# Altium footprint library Modules.PcbLib: 22 footprints (part 1 of 2)
Each footprint in its own frame and in the unit in brackets; x right, y up, seen from the top. Pads: shape width x height; smd on the part's side, far side on the other; paste and mask are expansions set on the pad; w line width, h text height; cw(c..) or ccw(c..) is an arc to the next point about the centre after c.
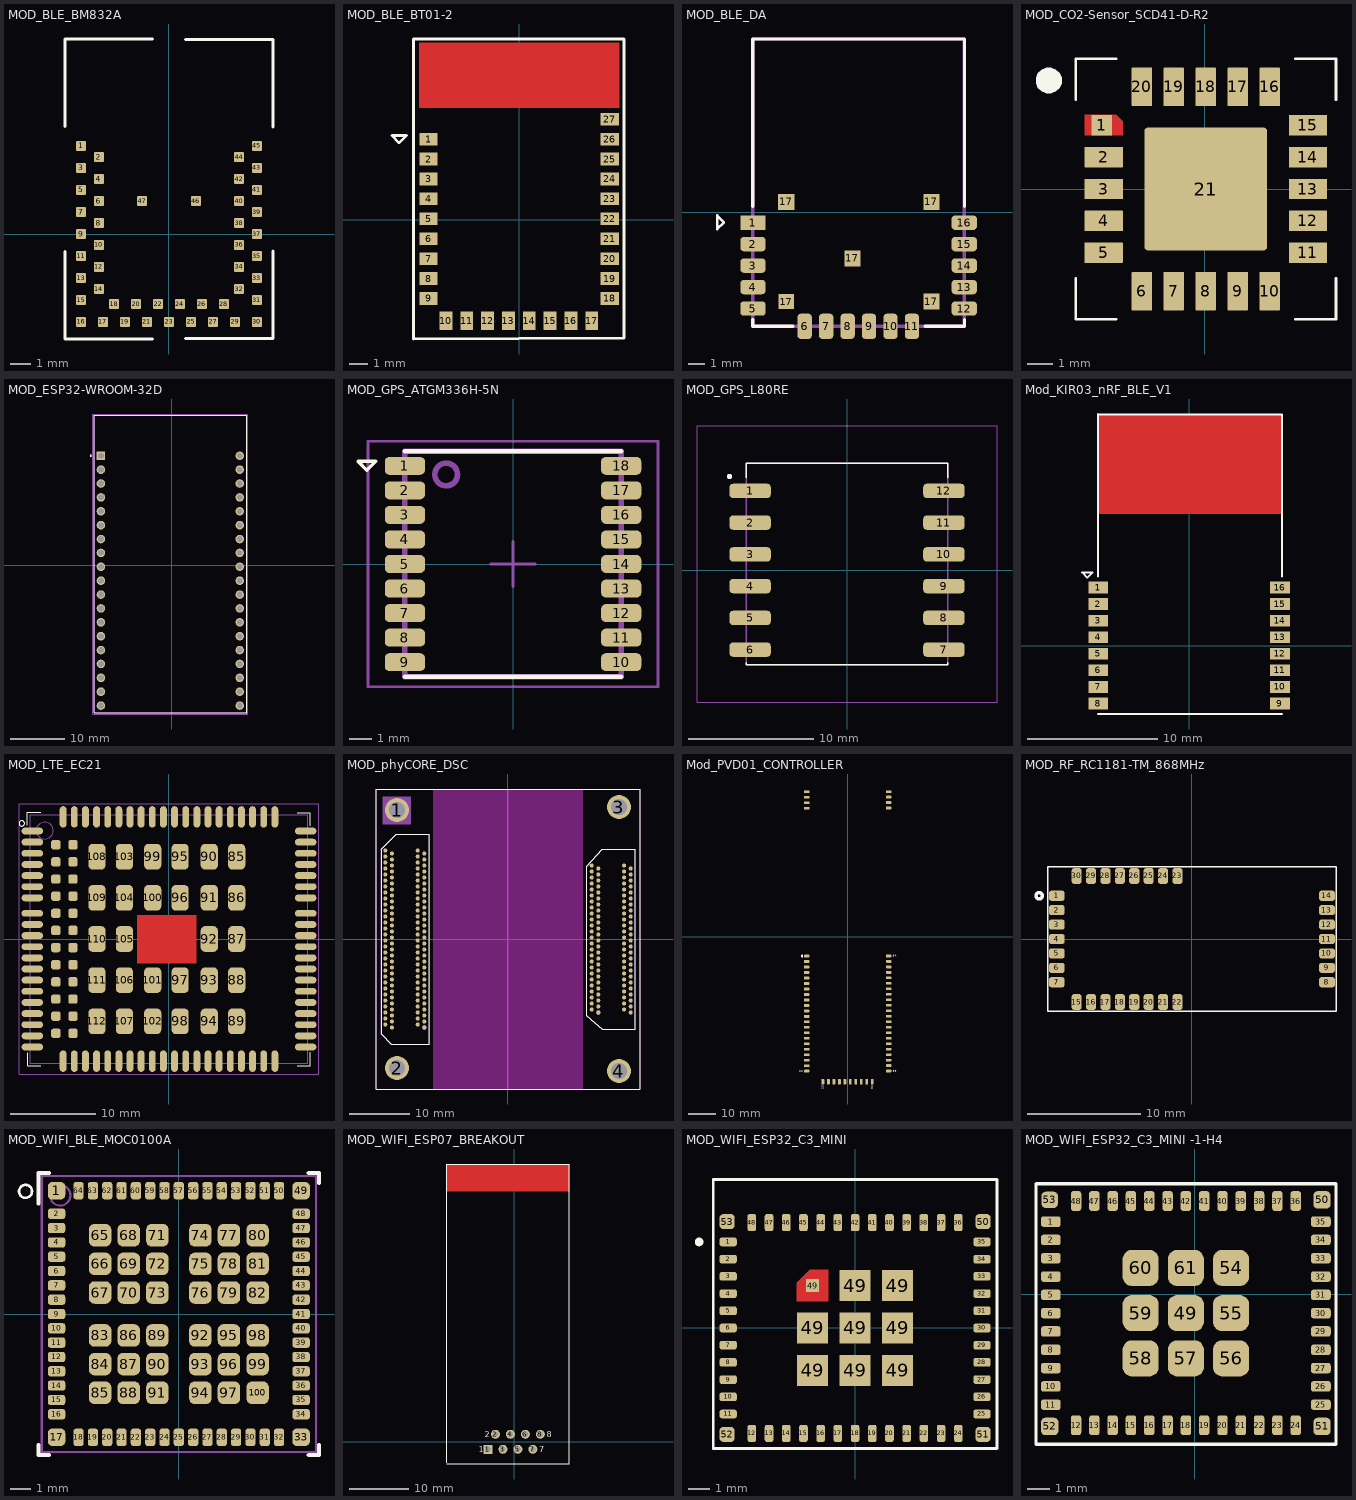
[diagram p0: the footprints below, top view; thin cyan lines are the x and y axes]

## MOD_BLE_BM832A [mil] "/20210909/C-E.Rincon"
pads (47):
  rrect25% 20x20 smd mask+0: 1(-173.23,173.23) 2(-137.8,151.57) 3(-173.23,129.92) 4(-137.8,108.27) 5(-173.23,86.61) 6(-137.8,64.96) 7(-173.23,43.31) 8(-137.8,21.65) 9(-173.23,0) 10(-137.8,-21.65) 11(-173.23,-43.31) 12(-137.8,-64.96) 13(-173.23,-86.61) 14(-137.8,-108.27) 15(-173.23,-129.92) 16(-173.23,-173.23) 17(-129.92,-173.23) 18(-108.27,-137.8) 19(-86.61,-173.23) 20(-64.96,-137.8) 21(-43.31,-173.23) 22(-21.65,-137.8) 23(0,-173.23) 24(21.65,-137.8) 25(43.31,-173.23) 26(64.96,-137.8) 27(86.61,-173.23) 28(108.27,-137.8) 29(129.92,-173.23) 30(173.23,-173.23) 31(173.23,-129.92) 32(137.8,-108.27) 33(173.23,-86.61) 34(137.8,-64.96) 35(173.23,-43.31) 36(137.8,-21.65) 37(173.23,0) 38(137.8,21.65) 39(173.23,43.31) 40(137.8,64.96) 41(173.23,86.61) 42(137.8,108.27) 43(173.23,129.92) 44(137.8,151.57) 45(173.23,173.23) 46(53.15,64.96) 47(-53.15,64.96)
Top Overlay:
  lines w6: -204.72,-34.45 -204.72,-206.69 -32.48,-206.69 ; -204.72,211.61 -204.72,383.86 -32.48,383.86 ; 32.48,-205.71 204.72,-205.71 204.72,-33.46 ; 32.48,382.87 204.72,382.87 204.72,210.63
3D body: height 78.74, standoff 0, extent -197.46,-196.47 197.47,210.64
3D body "BM832.step": height 24.5, standoff 0.5, extent -200.7,-200.83 200.87,382.01

## MOD_BLE_BT01-2 [mm] "/20210217/J-E.Pachon"
pads (27):
  rect 1x0.7 smd: 1(-5,4.464) 2(-5,3.364) 3(-5,2.264) 4(-5,1.164) 5(-5,0.064) 6(-5,-1.036) 7(-5,-2.136) 8(-5,-3.236) 9(-5,-4.336) 18(5,-4.336) 19(5,-3.236) 20(5,-2.136) 21(5,-1.036) 22(5,0.064) 23(5,1.164) 24(5,2.264) 25(5,3.364) 26(5,4.464) 27(5,5.564)
  rect 0.7x1 smd: 10(-4.048,-5.564) 11(-2.897,-5.564) 12(-1.747,-5.564) 13(-0.597,-5.564) 14(0.553,-5.564) 15(1.703,-5.564) 16(2.853,-5.564) 17(4.003,-5.564)
Top Layer:
  pour cut-out: 5.527,6.185 -5.513,6.185 -5.513,9.787 5.527,9.786
Top Overlay:
  lines w0.152: 5.79,-6.521 -5.833,-6.572 -5.833,9.99 5.79,9.99 5.79,-6.52 ; -7.03,4.656 -6.63,4.256 -6.23,4.656 -6.93,4.656 -7.03,4.656
3D body: height 2, standoff 0, extent -5.032,-5.572 5,9.786

## MOD_BLE_DA [mm] "/20230718/L-A.Rodriguez"
pads (21):
  rect 1.5x0.85 smd mask+0.051: 1(9.131,-0.607)
  rrect50% 1.5x0.85 smd mask+0.051: 2(9.131,-1.877) 3(9.131,-3.147) 4(9.131,-4.417) 5(9.131,-5.687) 12(21.631,-5.687) 13(21.631,-4.417) 14(21.631,-3.147) 15(21.631,-1.877) 16(21.631,-0.607)
  rrect50% 0.85x1.5 smd mask+0.051: 6(12.189,-6.738) 7(13.459,-6.738) 8(14.729,-6.738) 9(15.999,-6.738) 10(17.269,-6.738) 11(18.539,-6.738)
  rect 0.95x0.95 smd mask+0.051: 17(11.1,0.629) 17(15.012,-2.717) 17(19.685,0.629) 17(19.685,-5.279)
  rect 0.89x0.89 smd mask+0.051: 17(11.1,-5.279)
Top Overlay:
  lines w0.152: 7.01,-0.983 7.01,-0.883 7.01,-0.183 7.41,-0.583 7.01,-0.983
  lines w0.203: 9.131,-6.35 9.131,-6.738 11.481,-6.738 ; 9.131,0.362 9.131,10.262 21.648,10.262 21.648,0.362 ; 19.312,-6.738 21.648,-6.738 21.648,-6.35
Mechanical 2:
  lines w0.203: 9.131,-6.738 9.131,10.262 21.631,10.262 21.631,-6.738 9.131,-6.738
3D body "TTM00_DA-MODULE_1.1.step": height 2.21, standoff 0, extent 9.131,-6.738 21.631,10.262

## MOD_CO2-Sensor_SCD41-D-R2 [mm] "/20220124/J/E.Pachon"
pads (21):
  rect 0.8x0.8 smd paste-0.7: 1(-4.037,2.5)
  rrect5% 1.5x0.8 smd paste-0.125: 2(-3.962,1.25) 3(-3.962,0) 4(-3.962,-1.25) 5(-3.962,-2.5) 11(4.038,-2.5) 12(4.038,-1.25) 13(4.038,0) 14(4.038,1.25) 15(4.038,2.5)
  rrect5% 0.8x1.5 smd paste-0.125: 6(-2.462,-4) 7(-1.212,-4) 8(0.038,-4) 9(1.288,-4) 10(2.538,-4) 16(2.538,4) 17(1.288,4) 18(0.038,4) 19(-1.212,4) 20(-2.462,4)
  rrect5% 4.8x4.8 smd paste-5 mask+0.1: 21(0.038,0)
Top Layer:
  region: -4.712,2.1 -4.712,2.9 -3.462,2.9 -3.212,2.65 -3.212,2.1
Top Overlay:
  region: -6.112,3.75 -6.212,3.75 -6.396,3.826 -6.536,3.967 -6.612,4.151 -6.612,4.25 -6.612,4.349 -6.536,4.533 -6.396,4.674 -6.212,4.75 -6.112,4.75 -6.013,4.75 -5.829,4.674 -5.689,4.533 -5.612,4.349 -5.612,4.25 -5.612,4.151 -5.689,3.967 -5.829,3.826 -6.013,3.75
  lines w0.1: -5.062,-3.5 -5.062,-5.1 -3.462,-5.1 ; -5.062,3.5 -5.062,5.1 -3.462,5.1 ; 3.538,-5.1 5.138,-5.1 5.138,-3.5 ; 3.538,5.1 5.138,5.1 5.138,3.5
Top Paste:
  region: 2.187,2.05 2.187,0.45 2.187,0.43 2.172,0.393 2.144,0.365 2.107,0.35 2.087,0.35 0.488,0.35 0.468,0.35 0.431,0.365 0.403,0.393 0.388,0.43 0.388,0.45 0.388,2.05 0.388,2.07 0.403,2.107 0.431,2.135 0.468,2.15 0.488,2.15 2.087,2.15 2.107,2.15 2.144,2.135 2.172,2.107 2.187,2.07
  region: 2.088,-2.15 0.488,-2.15 0.468,-2.15 0.431,-2.135 0.403,-2.107 0.388,-2.07 0.388,-2.05 0.388,-0.45 0.388,-0.43 0.403,-0.393 0.431,-0.365 0.468,-0.35 0.488,-0.35 2.088,-0.35 2.107,-0.35 2.144,-0.365 2.172,-0.393 2.188,-0.43 2.188,-0.45 2.188,-2.05 2.188,-2.07 2.172,-2.107 2.144,-2.135 2.108,-2.15
  region: -2.112,-2.05 -2.112,-0.45 -2.112,-0.43 -2.097,-0.393 -2.069,-0.365 -2.032,-0.35 -2.012,-0.35 -0.413,-0.35 -0.393,-0.35 -0.356,-0.365 -0.328,-0.393 -0.313,-0.43 -0.313,-0.45 -0.313,-2.05 -0.313,-2.07 -0.328,-2.107 -0.356,-2.135 -0.393,-2.15 -0.413,-2.15 -2.012,-2.15 -2.032,-2.15 -2.069,-2.135 -2.097,-2.107 -2.112,-2.07
  region: -2.013,2.15 -0.413,2.15 -0.393,2.15 -0.356,2.135 -0.328,2.107 -0.313,2.07 -0.313,2.05 -0.313,0.45 -0.313,0.43 -0.328,0.393 -0.356,0.365 -0.393,0.35 -0.413,0.35 -2.013,0.35 -2.032,0.35 -2.069,0.365 -2.097,0.393 -2.113,0.43 -2.113,0.45 -2.113,2.05 -2.113,2.07 -2.097,2.107 -2.069,2.135 -2.032,2.15
3D body "149693-00_SCD4x_Datasheet.STEP": height 6.28, standoff -0.03, extent -5.012,-5.05 5.088,5.05

## MOD_ESP32-WROOM-32D [mm] "/20231103/J.Jaramillo"
pads (38):
  rect 1.56x1.56 / inner round 1.56 / far side rect 1.56x1.56 hole 1.04: J2-1(-12.954,20.014)
  round 1.56 hole 1.04: J2-2(-12.954,17.474) J2-3(-12.954,14.934) J2-4(-12.954,12.394) J2-5(-12.954,9.854) J2-6(-12.954,7.314) J2-7(-12.954,4.774) J2-8(-12.954,2.234) J2-9(-12.954,-0.306) J2-10(-12.954,-2.846) J2-11(-12.954,-5.386) J2-12(-12.954,-7.926) J2-13(-12.954,-10.466) J2-14(-12.954,-13.006) J2-15(-12.954,-15.546) J2-16(-12.954,-18.086) J2-17(-12.954,-20.626) J2-18(-12.954,-23.166) J2-19(-12.954,-25.706) J3-1(12.446,20.014) J3-2(12.446,17.474) J3-3(12.446,14.934) J3-4(12.446,12.394) J3-5(12.446,9.854) J3-6(12.446,7.314) J3-7(12.446,4.774) J3-8(12.446,2.234) J3-9(12.446,-0.306) J3-10(12.446,-2.846) J3-11(12.446,-5.386) J3-12(12.446,-7.926) J3-13(12.446,-10.466) J3-14(12.446,-13.006) J3-15(12.446,-15.546) J3-16(12.446,-18.086) J3-17(12.446,-20.626) J3-18(12.446,-23.166) J3-19(12.446,-25.706)
Top Overlay:
  circle w0.2: c-14.854,20.014 r0.1
  lines w0.127: -14.204,-26.996 13.696,-26.996 13.696,27.404 -14.204,27.404 -14.204,-26.996
Top 3D Body:
  circle w0.2: c-14.854,20.014 r0.1
  lines w0.127: -14.204,-26.996 -14.204,27.404 13.696,27.404 13.696,-26.996 -14.204,-26.996
Mechanical 15:
  lines w0.05: -14.454,-27.246 -14.454,27.654 13.946,27.654 13.946,-27.246 -14.454,-27.246
3D body "step_temp.STEP": height 6.69, standoff -6, extent -14.224,-27.646 13.716,27.454

## MOD_GPS_ATGM336H-5N [mm] "/20210421/C-D Viveros"
pads (18):
  rrect50% 1.8x0.8 smd: 1(-4.85,4.4) 2(-4.85,3.3) 3(-4.85,2.2) 4(-4.85,1.1) 5(-4.85,0) 6(-4.85,-1.1) 7(-4.85,-2.2) 8(-4.85,-3.3) 9(-4.85,-4.4) 10(4.85,-4.4) 11(4.85,-3.3) 12(4.85,-2.2) 13(4.85,-1.1) 14(4.85,0) 15(4.85,1.1) 16(4.85,2.2) 17(4.85,3.3) 18(4.85,4.4)
Top Overlay:
  lines w0.152: -6.95,4.604 -6.85,4.604 -6.15,4.604 -6.55,4.204 -6.95,4.604
  lines w0.2: -4.85,-5.05 4.85,-5.05 ; -4.85,5.05 4.85,5.05
Mechanical 1:
  circle w0.254: c-2.997,4.013 r0.508
  lines w0.254: -4.85,-5.05 4.85,-5.05 4.85,5.05 -4.85,5.05 -4.85,-5.05
Mechanical 15:
  lines w0.127: -1,0 1,0 ; 0,-1 0,1 ; -6.5,-5.5 -6.5,5.5 6.5,5.5 6.5,-5.5 -6.5,-5.5
3D body: height 2.4, standoff 0, extent -4.85,-5.05 4.85,5.05

## MOD_GPS_L80RE [mil] "/20210416/V-A.Patino"
pads (12):
  rrect50% 130x45 smd paste-78.74: 1(-305.12,250) 2(-305.12,150) 3(-305.12,50) 4(-305.12,-50) 5(-305.12,-150) 6(-305.12,-250) 7(305.12,-250) 8(305.12,-150) 9(305.12,-50) 10(305.12,50) 11(305.12,150) 12(305.12,250)
Top Overlay:
  circle w7.87: c-370.08,295.28 r3.94
  lines w5: -317.91,-291.34 -317.91,-298.23 317.91,-298.23 317.91,-291.34 ; -317.91,291.34 -317.91,337.6 317.91,337.6 317.91,291.34
Top 3D Body:
  circle w7.87: c-370.08,295.28 r3.94
  lines w5: -317.91,-298.23 317.91,-298.23 317.91,337.6 -317.91,337.6 -317.91,-298.23
Mechanical 15:
  lines w1.97: -472.44,-416.34 472.44,-416.34 472.44,455.71 -472.44,455.71 -472.44,-416.34
3D body "L80RE-M37.STEP": height 278.06, standoff 0.5, extent -314.96,-293.95 314.96,335.97

## Mod_KIR03_nRF_BLE_V1 [mm] "/20200207/ C-A.Serna.A"
pads (16):
  rect 1.5x0.9 smd: 1(-6.957,4.445) 2(-6.957,3.175) 3(-6.957,1.905) 4(-6.957,0.635) 5(-6.957,-0.635) 6(-6.957,-1.905) 7(-6.957,-3.175) 8(-6.957,-4.445) 9(6.957,-4.445) 10(6.957,-3.175) 11(6.957,-1.905) 12(6.957,-0.635) 13(6.957,0.635) 14(6.957,1.905) 15(6.957,3.175) 16(6.957,4.445)
Top Layer:
  pour cut-out: 7.094,10.1 -7.008,10.1 -7.008,17.741 7.094,17.74
Top Overlay:
  lines w0.152: -7.008,-5.249 -6.859,-5.249 7.094,-5.249 ; -7.008,5.3 -7.008,17.73 -6.978,17.7 7.094,17.7 7.094,5.3 7.094,5.3 ; -8.2,5.6 -8.1,5.6 -7.4,5.6 -7.8,5.2 -8.2,5.6
3D body "KIR03_P3D_nRF-BLE_20200210.step": height 2.64, standoff 0.01, extent -6.957,-5.3 7.043,17.7

## MOD_LTE_EC21 [mm] "/20190402/ M-X.Arias"
pads (132):
  oval 2.5x0.8 smd: 1(-15.95,12.6) 2(-15.95,11.3) 3(-15.95,10) 4(-15.95,8.7) 5(-15.95,7.4) 6(-15.95,6.1) 7(-15.95,4.8) 8(-15.95,0.4) 9(-15.95,-0.9) 10(-15.95,-2.2) 11(-15.95,-3.5) 12(-15.95,-4.8) 13(-15.95,-6.1) 14(-15.95,-7.4) 15(-15.95,-8.7) 16(-15.95,-10) 17(-15.95,-11.3) 18(-15.95,-12.6) 37(15.95,-12.6) 38(15.95,-11.3) 39(15.95,-10) 40(15.95,-8.7) 41(15.95,-7.4) 42(15.95,-6.1) 43(15.95,-4.8) 44(15.95,-3.5) 45(15.95,-2.2) 46(15.95,-0.9) 47(15.95,0.4) 48(15.95,4.8) 49(15.95,6.1) 50(15.95,7.4) 51(15.95,8.7) 52(15.95,10) 53(15.95,11.3) 54(15.95,12.6) 141(-15.95,3) 142(-15.95,1.7) 143(15.95,1.7) 144(15.95,3)
  oval 0.8x2.5 smd: 19(-9.75,-14.25) 20(-8.45,-14.25) 21(-7.15,-14.25) 22(-5.85,-14.25) 23(-4.55,-14.25) 24(-3.25,-14.25) 25(-1.95,-14.25) 26(-0.65,-14.25) 27(0.65,-14.25) 28(1.95,-14.25) 29(3.25,-14.25) 30(4.55,-14.25) 31(5.85,-14.25) 32(7.15,-14.25) 33(8.45,-14.25) 34(9.75,-14.25) 35(11.05,-14.25) 36(12.35,-14.25) 55(12.35,14.25) 56(11.05,14.25) 57(9.75,14.25) 58(8.45,14.25) 59(7.15,14.25) 60(5.85,14.25) 61(4.55,14.25) 62(3.25,14.25) 63(1.95,14.25) 64(0.65,14.25) 65(-0.65,14.25) 66(-1.95,14.25) 67(-3.25,14.25) 68(-4.55,14.25) 69(-5.85,14.25) 70(-7.15,14.25) 71(-8.45,14.25) 72(-9.75,14.25) 113(-11.05,14.25) 114(-12.35,14.25) 115(-11.05,-14.25) 116(-12.35,-14.25)
  rrect50% 2x3 smd: 85(7.9,9.6) 86(7.9,4.8) 87(7.9,0) 88(7.9,-4.8) 89(7.9,-9.6) 90(4.7,9.6) 91(4.7,4.8) 92(4.7,0) 93(4.7,-4.8) 94(4.7,-9.6) 95(1.3,9.6) 96(1.3,4.8) 97(1.3,-4.8) 98(1.3,-9.6) 99(-1.9,9.6) 100(-1.9,4.8) 101(-1.9,-4.8) 102(-1.9,-9.6) 103(-5.2,9.6) 104(-5.2,4.8) 105(-5.2,0) 106(-5.2,-4.8) 107(-5.2,-9.6) 108(-8.4,9.6) 109(-8.4,4.8) 110(-8.4,0) 111(-8.4,-4.8) 112(-8.4,-9.6)
  rrect50% 1.1x1.1 smd: 117(-11.2,11) 118(-11.2,9) 119(-11.2,7) 120(-11.2,5) 121(-11.2,3) 122(-11.2,1) 123(-11.2,-1) 124(-11.2,-3) 125(-11.2,-5) 126(-11.2,-7) 127(-11.2,-9) 128(-11.2,-11) 129(-13.2,11) 130(-13.2,9) 131(-13.2,7) 132(-13.2,5) 133(-13.2,3) 134(-13.2,1) 135(-13.2,-1) 136(-13.2,-3) 137(-13.2,-5) 138(-13.2,-7) 139(-13.2,-9) 140(-13.2,-11)
Top Layer:
  pour cut-out: -3.707,2.796 3.202,2.796 3.202,-2.818 -3.707,-2.818
Top Overlay:
  circle w0.127: c-17.17,13.487 r0.318
  lines w0.127: -16.51,13.284 -16.51,14.808 -14.986,14.808 ; -16.459,-13.259 -16.459,-14.783 -14.935,-14.783 ; 14.935,-14.757 16.459,-14.757 16.459,-13.233 ; 14.935,14.757 16.459,14.757 16.459,13.233
Mechanical 1:
  circle w0.127: c-14.503,12.649 r0.986
  lines w0.127: -16.2,14.483 -16.2,-14.5 16.2,-14.5 16.2,14.5 -16.183,14.5
Mechanical 15:
  lines w0.127: -2.032,0 2.032,0 ; 0,-2.032 0,2.032 ; 17.476,-15.797 -17.474,-15.797 -17.499,-15.772 -17.499,15.8 17.476,15.8 ; 17.502,-15.797 17.502,15.775
3D body: height 1.5, standoff 0, extent -16.2,-14.58 16.2,14.42

## MOD_phyCORE_DSC [mm] "phyCORE DSC 220 SMD Pads/N-A.Potosi/20200413"
height 4.064
pads (224):
  round 4 hole 2.6 paste-127 mask+0: 1(-18.5,21.5) 2(-18.5,-21.5) 3(18.5,22) 4(18.5,-22)
  round 0.675 smd paste+0 mask+0.05: A1(-20.45,14.75) A2(-19.35,14.25) A3(-20.45,13.75) A4(-19.35,13.25) A5(-20.45,12.75) A6(-19.35,12.25) A7(-20.45,11.75) A8(-19.35,11.25) A9(-20.45,10.75) A10(-19.35,10.25) A11(-20.45,9.75) A12(-19.35,9.25) A13(-20.45,8.75) A14(-19.35,8.25) A15(-20.45,7.75) A16(-19.35,7.25) A17(-20.45,6.75) A18(-19.35,6.25) A19(-20.45,5.75) A20(-19.35,5.25) A21(-20.45,4.75) A22(-19.35,4.25) A23(-20.45,3.75) A24(-19.35,3.25) A25(-20.45,2.75) A26(-19.35,2.25) A27(-20.45,1.75) A28(-19.35,1.25) A29(-20.45,0.75) A30(-19.35,0.25) A31(-20.45,-0.25) A32(-19.35,-0.75) A33(-20.45,-1.25) A34(-19.35,-1.75) A35(-20.45,-2.25) A36(-19.35,-2.75) A37(-20.45,-3.25) A38(-19.35,-3.75) A39(-20.45,-4.25) A40(-19.35,-4.75) A41(-20.45,-5.25) A42(-19.35,-5.75) A43(-20.45,-6.25) A44(-19.35,-6.75) A45(-20.45,-7.25) A46(-19.35,-7.75) A47(-20.45,-8.25) A48(-19.35,-8.75) A49(-20.45,-9.25) A50(-19.35,-9.75) A51(-20.45,-10.25) A52(-19.35,-10.75) A53(-20.45,-11.25) A54(-19.35,-11.75) A55(-20.45,-12.25) A56(-19.35,-12.75) A57(-20.45,-13.25) A58(-19.35,-13.75) A59(-20.45,-14.25) A60(-19.35,-14.75) B1(-15.05,14.75) B2(-13.95,14.25) B3(-15.05,13.75) B4(-13.95,13.25) B5(-15.05,12.75) B6(-13.95,12.25) B7(-15.05,11.75) B8(-13.95,11.25) B9(-15.05,10.75) B10(-13.95,10.25) B11(-15.05,9.75) B12(-13.95,9.25) B13(-15.05,8.75) B14(-13.95,8.25) B15(-15.05,7.75) B16(-13.95,7.25) B17(-15.05,6.75) B18(-13.95,6.25) B19(-15.05,5.75) B20(-13.95,5.25) B21(-15.05,4.75) B22(-13.95,4.25) B23(-15.05,3.75) B24(-13.95,3.25) B25(-15.05,2.75) B26(-13.95,2.25) B27(-15.05,1.75) B28(-13.95,1.25) B29(-15.05,0.75) B30(-13.95,0.25) B31(-15.05,-0.25) B32(-13.95,-0.75) B33(-15.05,-1.25) B34(-13.95,-1.75) B35(-15.05,-2.25) B36(-13.95,-2.75) B37(-15.05,-3.25) B38(-13.95,-3.75) B39(-15.05,-4.25) B40(-13.95,-4.75) B41(-15.05,-5.25) B42(-13.95,-5.75) B43(-15.05,-6.25) B44(-13.95,-6.75) B45(-15.05,-7.25) B46(-13.95,-7.75) B47(-15.05,-8.25) B48(-13.95,-8.75) B49(-15.05,-9.25) B50(-13.95,-9.75) B51(-15.05,-10.25) B52(-13.95,-10.75) B53(-15.05,-11.25) B54(-13.95,-11.75) B55(-15.05,-12.25) B56(-13.95,-12.75) B57(-15.05,-13.25) B58(-13.95,-13.75) B59(-15.05,-14.25) B60(-13.95,-14.75) C1(13.95,12.25) C2(15.05,11.75) C3(13.95,11.25) C4(15.05,10.75) C5(13.95,10.25) C6(15.05,9.75) C7(13.95,9.25) C8(15.05,8.75) C9(13.95,8.25) C10(15.05,7.75) C11(13.95,7.25) C12(15.05,6.75) C13(13.95,6.25) C14(15.05,5.75) C15(13.95,5.25) C16(15.05,4.75) C17(13.95,4.25) C18(15.05,3.75) C19(13.95,3.25) C20(15.05,2.75) C21(13.95,2.25) C22(15.05,1.75) C23(13.95,1.25) C24(15.05,0.75) C25(13.95,0.25) C26(15.05,-0.25) C27(13.95,-0.75) C28(15.05,-1.25) C29(13.95,-1.75) C30(15.05,-2.25) C31(13.95,-2.75) C32(15.05,-3.25) C33(13.95,-3.75) C34(15.05,-4.25) C35(13.95,-4.75) C36(15.05,-5.25) C37(13.95,-5.75) C38(15.05,-6.25) C39(13.95,-6.75) C40(15.05,-7.25) C41(13.95,-7.75) C42(15.05,-8.25) C43(13.95,-8.75) C44(15.05,-9.25) C45(13.95,-9.75) C46(15.05,-10.25) C47(13.95,-10.75) C48(15.05,-11.25) C49(13.95,-11.75) C50(15.05,-12.25) D1(19.35,12.25) D2(20.45,11.75) D3(19.35,11.25) D4(20.45,10.75) D5(19.35,10.25) D6(20.45,9.75) D7(19.35,9.25) D8(20.45,8.75) D9(19.35,8.25) D10(20.45,7.75) D11(19.35,7.25) D12(20.45,6.75) D13(19.35,6.25) D14(20.45,5.75) D15(19.35,5.25) D16(20.45,4.75) D17(19.35,4.25) D18(20.45,3.75) D19(19.35,3.25) D20(20.45,2.75) D21(19.35,2.25) D22(20.45,1.75) D23(19.35,1.25) D24(20.45,0.75) D25(19.35,0.25) D26(20.45,-0.25) D27(19.35,-0.75) D28(20.45,-1.25) D29(19.35,-1.75) D30(20.45,-2.25) D31(19.35,-2.75) D32(20.45,-3.25) D33(19.35,-3.75) D34(20.45,-4.25) D35(19.35,-4.75) D36(20.45,-5.25) D37(19.35,-5.75) D38(20.45,-6.25) D39(19.35,-6.75) D40(20.45,-7.25) D41(19.35,-7.75) D42(20.45,-8.25) D43(19.35,-8.75) D44(20.45,-9.25) D45(19.35,-9.75) D46(20.45,-10.25) D47(19.35,-10.75) D48(20.45,-11.25) D49(19.35,-11.75) D50(20.45,-12.25)
Top Layer keep-out:
  region: -12.5,25 12.5,25 12.5,-25 -12.5,-25
Top Overlay:
  lines w0.1: -21.162,-15.827 -21.162,14.984 -18.646,17.5 -13.161,17.5 -13.162,-17.507 -19.483,-17.507 -21.162,-15.827 ; 13.136,-12.822 13.136,12.095 15.722,15 21.188,15 21.188,-15 15.672,-15 13.136,-12.822
  lines w0.15: -22,-25 22,-25 22,25 -22,25 -22,-25
Top Paste:
  text "SMT Stencil 100um" at -11.19,5.638 h1.27
Keep-Out Layer:
  board cut-out: -12.5,25 12.5,25 12.5,-25 -12.5,-25
Mechanical 1:
  region: -20.9,23.7 -20.9,19.1 -16.2,19.1 -16.2,23.7
  region: 15.05,-12.584 15.117,-12.584 15.241,-12.533 15.336,-12.438 15.388,-12.314 15.388,-12.247 15.388,-12.18 15.336,-12.056 15.241,-11.961 15.117,-11.909 15.05,-11.909 14.983,-11.909 14.859,-11.961 14.764,-12.056 14.713,-12.18 14.713,-12.247 14.713,-12.314 14.764,-12.438 14.859,-12.533 14.983,-12.584
  region: -13.95,-15.084 -13.883,-15.084 -13.759,-15.033 -13.664,-14.938 -13.612,-14.814 -13.612,-14.747 -13.612,-14.68 -13.664,-14.556 -13.759,-14.461 -13.883,-14.409 -13.95,-14.409 -14.017,-14.409 -14.141,-14.461 -14.236,-14.556 -14.287,-14.68 -14.287,-14.747 -14.287,-14.814 -14.236,-14.938 -14.141,-15.033 -14.017,-15.084
  lines w0.1: 0,-25 0,25 0,-25
  lines w0.15: -22,-25 22,-25 22,25 -22,25 -22,-25 ; -21.162,-15.85 -21.162,14.984 -18.646,17.5 -13.161,17.5 -13.098,-17.5 -19.448,-17.5 -21.162,-15.85 ; 13.136,-12.822 13.136,12.095 15.722,15 21.188,15 21.188,-15 15.672,-15 13.136,-12.822
  text ".Designator" at -0.402,-0.297 h1
3D body: height 0, standoff -2, extent -19.648,20.35 -17.352,22.641
3D body: height 0, standoff -2, extent 17.352,20.85 19.648,23.141
3D body: height 0, standoff -2, extent 17.352,-23.15 19.648,-20.859
3D body: height 0, standoff -2, extent -19.669,-22.679 -17.374,-20.388
3D body: height 4, standoff 0, extent -22.25,-25.25 22.25,25.25

## Mod_PVD01_CONTROLLER [mm] "/20230808/J-A.Sepulveda"
pads (62):
  rrect50% 2x1 smd: 0(-15,47.037) 0(-15,49.044) 0(-15,51.05) 0(-15,53.057) 0(15,47.088) 0(15,49.095) 0(15,51.101) 0(15,53.057) 1(-15,-7.083) 2(-15,-9.09) 3(-15,-11.096) 4(-15,-13.103) 5(-15,-15.11) 6(-15,-17.116) 7(-15,-19.123) 8(-15,-21.129) 9(-15,-23.136) 10(-15,-25.143) 11(-15,-27.149) 12(-15,-29.156) 13(-15,-31.162) 14(-15,-33.169) 15(-15,-35.176) 16(-15,-37.182) 17(-15,-39.189) 18(-15,-41.195) 19(-15,-43.202) 20(-15,-45.209) 21(-15,-47.215) 22(-15,-49.171) 33(15,-49.171) 34(15,-47.164) 35(15,-45.158) 36(15,-43.151) 37(15,-41.145) 38(15,-39.138) 39(15,-37.131) 40(15,-35.125) 41(15,-33.118) 42(15,-31.112) 43(15,-29.105) 44(15,-27.098) 45(15,-25.092) 46(15,-23.085) 47(15,-21.079) 48(15,-19.072) 49(15,-17.065) 50(15,-15.059) 51(15,-13.052) 52(15,-11.046) 53(15,-9.039) 54(15,-7.032)
  rrect50% 1x2 smd: 23(-9.03,-53.057) 24(-7.023,-53.057) 25(-5.016,-53.057) 26(-3.01,-53.057) 27(-1.003,-53.057) 28(1.003,-53.057) 29(3.01,-53.057) 30(5.016,-53.057) 31(7.023,-53.057) 32(9.03,-53.057)
Top Overlay:
  circle w0.3: c-16.626,-7.083 r0.279
  text "54" at 16.445,-7.413 h0.76
  text "33" at 16.445,-49.552 h0.76
  text "32" at 9.411,-55.724 h0.76
  text "23" at -8.649,-55.724 h0.76
  text "22" at -17.667,-49.552 h0.76
3D body: height 2, standoff 0, extent -15,-53.057 15,56.943

## MOD_RF_RC1181-TM_868MHz [mm] "/20230728/J-A.Sepulveda"
pads (30):
  rrect50% 1.39x0.89 smd: 1(-11.905,3.81) 2(-11.905,2.54) 3(-11.905,1.27) 4(-11.905,0) 5(-11.905,-1.27) 6(-11.905,-2.54) 7(-11.905,-3.81) 8(11.905,-3.81) 9(11.905,-2.54) 10(11.905,-1.27) 11(11.905,0) 12(11.905,1.27) 13(11.905,2.54) 14(11.905,3.81)
  rrect50% 0.89x1.39 smd: 15(-10.16,-5.555) 16(-8.89,-5.555) 17(-7.62,-5.555) 18(-6.35,-5.555) 19(-5.08,-5.555) 20(-3.81,-5.555) 21(-2.54,-5.555) 22(-1.27,-5.555) 23(-1.27,5.555) 24(-2.54,5.555) 25(-3.81,5.555) 26(-5.08,5.555) 27(-6.35,5.555) 28(-7.62,5.555) 29(-8.89,5.555) 30(-10.16,5.555)
Top Overlay:
  circle w0.3: c-13.462,3.81 r0.279
  lines w0.127: -12.7,-6.35 12.7,-6.35 12.7,6.35 -12.7,6.35 -12.7,-6.35
3D body: height 3.7, standoff 0, extent -12.637,-6.287 12.636,6.287

## MOD_WIFI_BLE_MOC0100A [mm] "/20200813/M-C.Calderon"
pads (100):
  rrect50% 0.85x0.85 smd paste-0.069 mask-0.051: 1(-5.975,6.025) 17(-5.975,-6.025) 33(5.975,-6.025) 49(5.975,6.025)
  rrect50% 0.85x0.5 smd paste-0.05 mask-0.051: 2(-5.975,4.9) 3(-5.975,4.2) 4(-5.975,3.5) 5(-5.975,2.8) 6(-5.975,2.1) 7(-5.975,1.4) 8(-5.975,0.7) 9(-5.975,0) 10(-5.975,-0.7) 11(-5.975,-1.4) 12(-5.975,-2.1) 13(-5.975,-2.8) 14(-5.975,-3.5) 15(-5.975,-4.2) 16(-5.975,-4.9) 34(5.975,-4.9) 35(5.975,-4.2) 36(5.975,-3.5) 37(5.975,-2.8) 38(5.975,-2.1) 39(5.975,-1.4) 40(5.975,-0.7) 41(5.975,0) 42(5.975,0.7) 43(5.975,1.4) 44(5.975,2.1) 45(5.975,2.8) 46(5.975,3.5) 47(5.975,4.2) 48(5.975,4.9)
  rrect50% 0.5x0.85 smd paste-0.05 mask-0.051: 18(-4.9,-6.025) 19(-4.2,-6.025) 20(-3.5,-6.025) 21(-2.8,-6.025) 22(-2.1,-6.025) 23(-1.4,-6.025) 24(-0.7,-6.025) 25(0,-6.025) 26(0.7,-6.025) 27(1.4,-6.025) 28(2.1,-6.025) 29(2.8,-6.025) 30(3.5,-6.025) 31(4.2,-6.025) 32(4.9,-6.025) 50(4.9,6.025) 51(4.2,6.025) 52(3.5,6.025) 53(2.8,6.025) 54(2.1,6.025) 55(1.4,6.025) 56(0.7,6.025) 57(0,6.025) 58(-0.7,6.025) 59(-1.4,6.025) 60(-2.1,6.025) 61(-2.8,6.025) 62(-3.5,6.025) 63(-4.2,6.025) 64(-4.9,6.025)
  rrect50% 1.1x1.1 smd paste-0.075 mask-0.051: 65(-3.85,3.85) 66(-3.85,2.45) 67(-3.85,1.05) 68(-2.45,3.85) 69(-2.45,2.45) 70(-2.45,1.05) 71(-1.05,3.85) 72(-1.05,2.45) 73(-1.05,1.05) 74(1.05,3.85) 75(1.05,2.45) 76(1.05,1.05) 77(2.45,3.85) 78(2.45,2.45) 79(2.45,1.05) 80(3.85,3.85) 81(3.85,2.45) 82(3.85,1.05) 83(-3.85,-1.05) 84(-3.85,-2.45) 85(-3.85,-3.85) 86(-2.45,-1.05) 87(-2.45,-2.45) 88(-2.45,-3.85) 89(-1.05,-1.05) 90(-1.05,-2.45) 91(-1.05,-3.85) 92(1.05,-1.05) 93(1.05,-2.45) 94(1.05,-3.85) 95(2.45,-1.05) 96(2.45,-2.45) 97(2.45,-3.85) 98(3.85,-1.05) 99(3.85,-2.45) 100(3.85,-3.85)
Top Overlay:
  circle w0.127: c-7.493,5.994 r0.318
  lines w0.2: -6.85,-6.4 -6.85,-6.9 -6.35,-6.9 ; -6.85,5.4 -6.85,6.9 -6.35,6.9 ; 6.35,-6.9 6.85,-6.9 6.85,-6.4 ; 6.35,6.9 6.85,6.9 6.85,6.4
Mechanical 1:
  circle w0.1: c-5.8,5.8 r0.5
  circle w0.1: c-5.8,5.8 r0.5
  circle w0.1: c-5.8,5.8 r0.5
  circle w0.1: c-5.8,5.8 r0.5
  circle w0.1: c-5.8,5.8 r0.5
  lines w0.1: -6.7,-6.75 -6.7,6.75 ; -6.7,-6.75 6.7,-6.75 ; -6.7,-6.75 -6.7,6.75 ; -6.7,-6.75 6.7,-6.75 ; -6.7,-6.75 -6.7,6.75 ; -6.7,-6.75 6.7,-6.75 ; -6.7,-6.75 -6.7,6.75 ; -6.7,-6.75 6.7,-6.75 ; -6.7,-6.75 -6.7,6.75 ; -6.7,-6.75 6.7,-6.75 ; -6.7,6.75 6.7,6.75 ; -6.7,6.75 6.7,6.75 ; -6.7,6.75 6.7,6.75 ; -6.7,6.75 6.7,6.75 ; -6.7,6.75 6.7,6.75 ; 6.7,-6.75 6.7,6.75 ; 6.7,-6.75 6.7,6.75 ; 6.7,-6.75 6.7,6.75 ; 6.7,-6.75 6.7,6.75 ; 6.7,-6.75 6.7,6.75
3D body "MOC0100A.stp": height 1.96, standoff 0, extent -6.777,-6.7 6.523,6.7

## MOD_WIFI_ESP07_BREAKOUT [mil] "ESP07/ 20200221 / N-A. Potosi"
pads (8):
  rect 60x60 hole 35: 1(-175,-50)
  round 60 hole 35: 2(-125,50) 3(-75,-50) 4(-25,50) 5(25,-50) 6(75,50) 7(125,-50) 8(175,50)
Top Layer:
  pour cut-out: -450.59,1672.9 -450.59,1854.75 368.31,1854.75 368.31,1672.9
Top Overlay:
  lines w5: -450.59,-148.43 368.31,-148.43 368.31,1854.75 -450.59,1854.75 -450.59,1744.33 -450.59,-141.67
  text "1" at -237,-71 h40
  text "2" at -197,30 h40
  text "7" at 168.91,-71.09 h40
  text "8" at 216.51,31.12 h40
3D body "KIR01_ESP07_V1R3.step": height 185.04, standoff -1.63, extent -450.59,-148.43 368.31,1854.75

## MOD_WIFI_ESP32_C3_MINI [mm] "20220613 / E.Naranjo"
pads (61):
  rrect50% 0.8x0.4 smd: 1(-5.9,4) 2(-5.9,3.2) 3(-5.9,2.4) 4(-5.9,1.6) 5(-5.9,0.8) 6(-5.9,0) 7(-5.9,-0.8) 8(-5.9,-1.6) 9(-5.9,-2.4) 10(-5.9,-3.2) 11(-5.9,-4) 25(5.9,-4) 26(5.9,-3.2) 27(5.9,-2.4) 28(5.9,-1.6) 29(5.9,-0.8) 30(5.9,0) 31(5.9,0.8) 32(5.9,1.6) 33(5.9,2.4) 34(5.9,3.2) 35(5.9,4)
  rrect50% 0.4x0.8 smd: 12(-4.8,-4.9) 13(-4,-4.9) 14(-3.2,-4.9) 15(-2.4,-4.9) 16(-1.6,-4.9) 17(-0.8,-4.9) 18(0,-4.9) 19(0.8,-4.9) 20(1.6,-4.9) 21(2.4,-4.9) 22(3.2,-4.9) 23(4,-4.9) 24(4.8,-4.9) 36(4.8,4.9) 37(4,4.9) 38(3.2,4.9) 39(2.4,4.9) 40(1.6,4.9) 41(0.8,4.9) 42(0,4.9) 43(-0.8,4.9) 44(-1.6,4.9) 45(-2.4,4.9) 46(-3.2,4.9) 47(-4,4.9) 48(-4.8,4.9)
  rect 1.45x1.45 smd: 49(-1.975,-1.975) 49(-1.975,0) 49(0,-1.975) 49(0,0) 49(0,1.975) 49(1.975,-1.975) 49(1.975,0) 49(1.975,1.975)
  rect 0.6x0.6 smd paste-1 mask+0: 49(-1.975,1.975)
  rrect50% 0.7x0.7 smd: 50(5.95,4.95) 51(5.95,-4.95) 52(-5.95,-4.95) 53(-5.95,4.95)
Top Layer:
  region: -1.25,1.25 -2.7,1.25 -2.7,2.1 -2.1,2.7 -1.25,2.7
Top Overlay:
  circle w0.2: c-7.25,4 r0.1
  lines w0.127: -6.6,-5.6 -6.6,6.9 6.6,6.9 6.6,-5.6 -6.6,-5.6
Top Paste:
  region: -1.25,1.25 -2.7,1.25 -2.7,2.1 -2.1,2.7 -1.25,2.7
Top Solder:
  region: -1.15,1.15 -2.8,1.15 -2.8,2.14 -2.14,2.8 -1.15,2.8
3D body "ESP32-C3-MINI-1U-N4--3DModel-STEP-269445.STEP": height 2.56, standoff 0.01, extent -6.6,-5.6 6.6,6.9

## MOD_WIFI_ESP32_C3_MINI -1-H4 [mil] "20230614 / J.Jaramillo"
pads (74):
  rrect50% 34x18 smd paste+0 mask+0: 1(-247.36,124.73) 2(-247.36,93.23) 3(-247.36,61.73) 4(-247.36,30.24) 5(-247.36,-1.26) 6(-247.36,-32.75) 7(-247.36,-64.25) 8(-247.36,-95.75) 9(-247.36,-127.24) 10(-247.36,-158.74) 11(-247.36,-190.23) 25(217.21,-190.23) 26(217.21,-158.74) 27(217.21,-127.24) 28(217.21,-95.75) 29(217.21,-64.25) 30(217.21,-32.75) 31(217.21,-1.26) 32(217.21,30.24) 33(217.21,61.73) 34(217.21,93.23) 35(217.21,124.73)
  rrect50% 18x34 smd paste+0 mask+0: 12(-204.05,-225.67) 13(-172.55,-225.67) 14(-141.06,-225.67) 15(-109.56,-225.67) 16(-78.07,-225.67) 17(-46.57,-225.67) 18(-15.07,-225.67) 19(16.42,-225.67) 20(47.92,-225.67) 21(79.41,-225.67) 22(110.91,-225.67) 23(142.41,-225.67) 24(173.9,-225.67) 36(173.9,160.16) 37(142.41,160.16) 38(110.91,160.16) 39(79.41,160.16) 40(47.92,160.16) 41(16.42,160.16) 42(-15.07,160.16) 43(-46.57,160.16) 44(-78.07,160.16) 45(-109.56,160.16) 46(-141.06,160.16) 47(-172.55,160.16) 48(-204.05,160.16)
  rrect50% 62x62 smd paste-28.5 mask-28.5: 49(-15.07,-32.75) 54(62.68,45) 55(62.68,-32.75) 56(62.68,-110.51) 57(-15.07,-110.51) 58(-92.83,-110.51) 59(-92.83,-32.75) 60(-92.83,45) 61(-15.07,45)
  rrect50% 30x30 smd paste-14 mask-14: 50(219.18,162.13) 51(219.18,-227.64) 52(-249.33,-227.64)
  rrect50% 28x28 smd paste-14 mask-14: 53(-249.33,162.13)
  rrect50% 57x57 on Top Solder paste-28.5 mask-28.5: " "(-92.83,-110.51) " "(-92.83,-32.75) " "(-92.83,45) " "(-15.07,-110.51) " "(-15.07,-32.75) " "(-15.07,45) " "(62.68,-110.51) " "(62.68,-32.75) " "(62.68,45)
  rrect50% 28x28 on Top Solder paste-14 mask-14: ""(-249.33,-227.64) ""(219.18,-227.64) ""(219.18,162.13)
  rrect50% 30x30 on Top Solder paste-14 mask-14: ""(-249.33,162.13)
Top Overlay:
  lines w6: -272.9,-258.25 -272.9,189.84 243.21,189.84 243.21,-258.25 -272.9,-258.25
  text "." at -291.58,130.06 h50
3D body "ESP32-C3-MINI-1-N4--3DModel-STEP-1.STEP": height 100.39, standoff 0, extent -274.49,-253.07 245.2,400.48